# EAGLE library part AM20EW-4824S-NZ (library AM20EW)
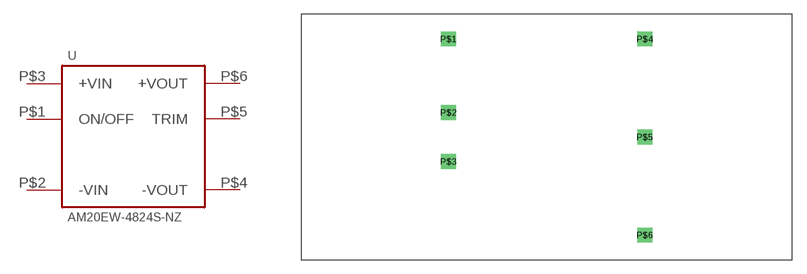
[diagram p0: symbol with the pads of AM20NW-NZ; footprint AM20NW-NZ]

Designator prefix -

## AM20EW-4824S-NZ  [AM20NW-NZ]
P$1  ON/OFF  in
P$2  -VIN  pwr
P$3  +VIN  pwr
P$4  -VOUT  pwr
P$5  TRIM
P$6  +VOUT  pwr

## Footprint AM20NW-NZ (pad centres in mm)
drill 1.016 square: P$1 15.24,22.86; P$2 15.24,15.24; P$3 15.24,10.16; P$4 35.56,22.86; P$5 35.56,12.7; P$6 35.56,2.54